# Altium schematic symbol library Connector_B2B.SchLib: 7 symbols
Pins are listed as number, name and electrical type; pins without a type are passive.

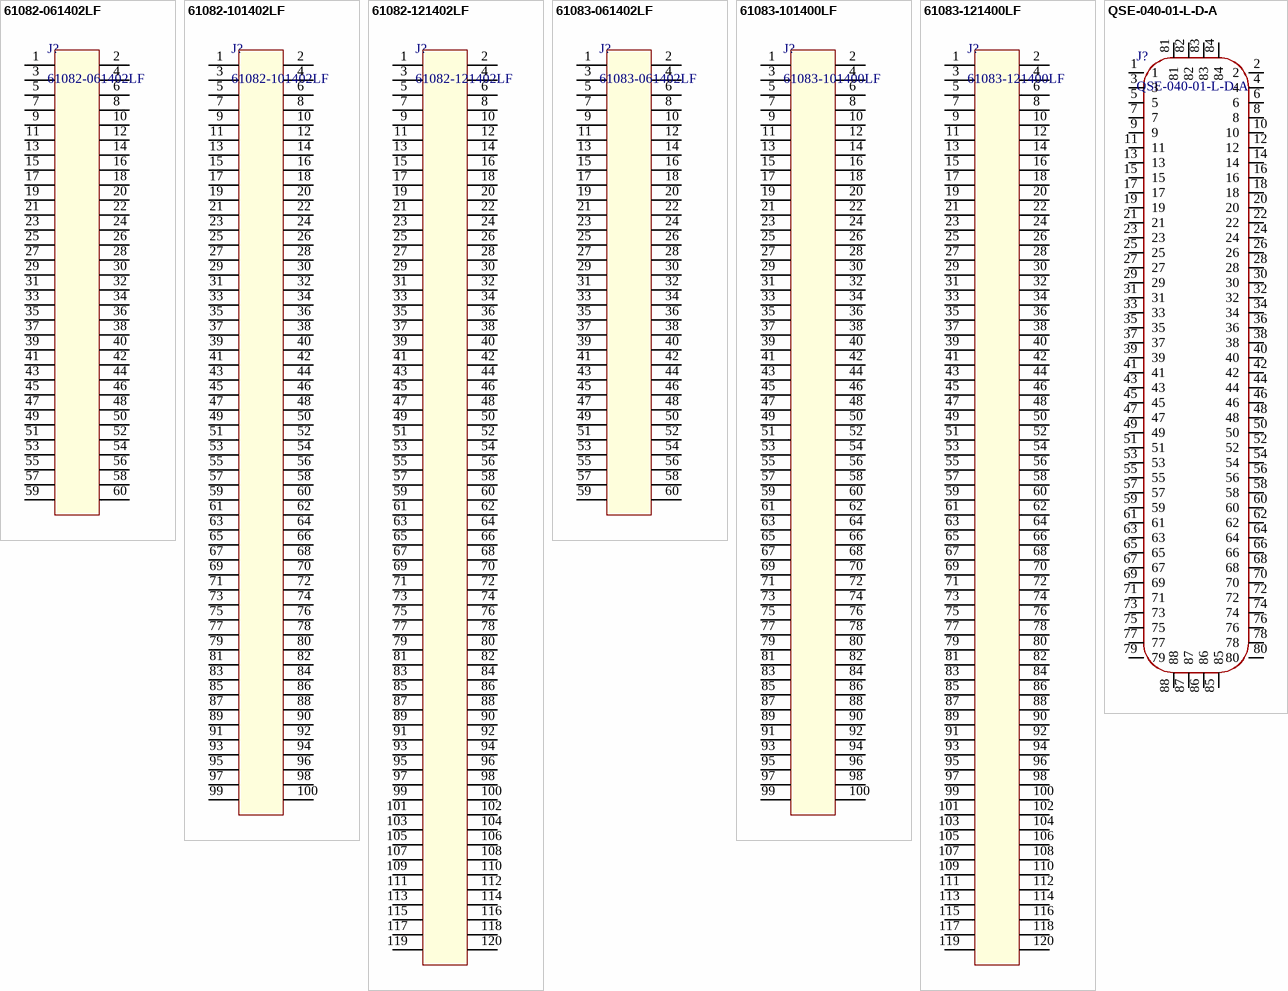
[diagram p0: symbols 61082-061402LF to QSE-040-01-L-D-A]

## 61082-061402LF
designator J?
60pin 0.8mm
footprint CONN-SMD_61082-061402LF
pins: 1, 2, 3, 4, 5, 6, 7, 8, 9, 10, 11, 12, 13, 14, 15, 16, 17, 18, 19, 20, 21, 22, 23, 24, 25, 26, 27, 28, 29, 30, 31, 32, 33, 34, 35, 36, 37, 38, 39, 40, 41, 42, 43, 44, 45, 46, 47, 48, 49, 50, 51, 52, 53, 54, 55, 56, 57, 58, 59, 60

## 61082-101402LF
designator J?
100pin 0.8mm
footprint CONN-SMD_61082-101402LF
pins: 1, 2, 3, 4, 5, 6, 7, 8, 9, 10, 11, 12, 13, 14, 15, 16, 17, 18, 19, 20, 21, 22, 23, 24, 25, 26, 27, 28, 29, 30, 31, 32, 33, 34, 35, 36, 37, 38, 39, 40, 41, 42, 43, 44, 45, 46, 47, 48, 49, 50, 51, 52, 53, 54, 55, 56, 57, 58, 59, 60, 61, 62 61, 63 62, 64 62, 65 63, 66 63, 67 64, 68 64, 69 65, 70 65, 71 66, 72 66, 73 67, 74 67, 75 68, 76 68, 77 69, 78 69, 79 70, 80 70, 81 71, 82 71, 83 72, 84 72, 85 73, 86 73, 87 74, 88 74, 89 75, 90 75, 91 76, 92 76, 93 77, 94 77, 95 78, 96 78, 97 79, 98 79, 99 80, 100 80

## 61082-121402LF
designator J?
120pin 0.8mm
footprint CONN-SMD_61082-121402LF (Footprint not found)
pins: 1, 2, 3, 4, 5, 6, 7, 8, 9, 10, 11, 12, 13, 14, 15, 16, 17, 18, 19, 20, 21, 22, 23, 24, 25, 26, 27, 28, 29, 30, 31, 32, 33, 34, 35, 36, 37, 38, 39, 40, 41, 42, 43, 44, 45, 46, 47, 48, 49, 50, 51, 52, 53, 54, 55, 56, 57, 58, 59, 60, 61, 62 61, 63 62, 64 62, 65 63, 66 63, 67 64, 68 64, 69 65, 70 65, 71 66, 72 66, 73 67, 74 67, 75 68, 76 68, 77 69, 78 69, 79 70, 80 70, 81 71, 82 71, 83 72, 84 72, 85 73, 86 73, 87 74, 88 74, 89 75, 90 75, 91 76, 92 76, 93 77, 94 77, 95 78, 96 78, 97 79, 98 79, 99 80, 100 80, 101 81, 102 81, 103 82, 104 82, 105 83, 106 83, 107 84, 108 84, 109 85, 110 85, 111 86, 112 86, 113 87, 114 87, 115 88, 116 88, 117 89, 118 89, 119 90, 120 90

## 61083-061402LF
designator J?
60pin 0.8mm
footprint CONN-SMD_61083-061402LF
pins: 1, 2, 3, 4, 5, 6, 7, 8, 9, 10, 11, 12, 13, 14, 15, 16, 17, 18, 19, 20, 21, 22, 23, 24, 25, 26, 27, 28, 29, 30, 31, 32, 33, 34, 35, 36, 37, 38, 39, 40, 41, 42, 43, 44, 45, 46, 47, 48, 49, 50, 51, 52, 53, 54, 55, 56, 57, 58, 59, 60

## 61083-101400LF
designator J?
100pin 0.8mm
footprint CONN-SMD_61083-101402LF
pins: 1, 2, 3, 4, 5, 6, 7, 8, 9, 10, 11, 12, 13, 14, 15, 16, 17, 18, 19, 20, 21, 22, 23, 24, 25, 26, 27, 28, 29, 30, 31, 32, 33, 34, 35, 36, 37, 38, 39, 40, 41, 42, 43, 44, 45, 46, 47, 48, 49, 50, 51, 52, 53, 54, 55, 56, 57, 58, 59, 60, 61 60, 62 61, 63 61, 64 62, 65 62, 66 63, 67 63, 68 64, 69 64, 70 65, 71 65, 72 66, 73 66, 74 67, 75 67, 76 68, 77 68, 78 69, 79 69, 80 70, 81 70, 82 71, 83 71, 84 72, 85 72, 86 73, 87 73, 88 74, 89 74, 90 75, 91 75, 92 76, 93 76, 94 77, 95 77, 96 78, 97 78, 98 79, 99 79, 100 80

## 61083-121400LF
designator J?
120pin 0.8mm
footprint CONN-SMD_61083-121402LF (Footprint not found)
pins: 1, 2, 3, 4, 5, 6, 7, 8, 9, 10, 11, 12, 13, 14, 15, 16, 17, 18, 19, 20, 21, 22, 23, 24, 25, 26, 27, 28, 29, 30, 31, 32, 33, 34, 35, 36, 37, 38, 39, 40, 41, 42, 43, 44, 45, 46, 47, 48, 49, 50, 51, 52, 53, 54, 55, 56, 57, 58, 59, 60, 61 60, 62 61, 63 61, 64 62, 65 62, 66 63, 67 63, 68 64, 69 64, 70 65, 71 65, 72 66, 73 66, 74 67, 75 67, 76 68, 77 68, 78 69, 79 69, 80 70, 81 70, 82 71, 83 71, 84 72, 85 72, 86 73, 87 73, 88 74, 89 74, 90 75, 91 75, 92 76, 93 76, 94 77, 95 77, 96 78, 97 78, 98 79, 99 79, 100 80, 101 80, 102 81, 103 81, 104 82, 105 82, 106 83, 107 83, 108 84, 109 84, 110 85, 111 85, 112 86, 113 86, 114 87, 115 87, 116 88, 117 88, 118 89, 119 89, 120 90

## QSE-040-01-L-D-A
designator J?
footprint QSE-040-01-L-D-A
pins: 1, 2, 3, 4, 5, 6, 7, 8, 9, 10, 11, 12, 13, 14, 15, 16, 17, 18, 19, 20, 21, 22, 23, 24, 25, 26, 27, 28, 29, 30, 31, 32, 33, 34, 35, 36, 37, 38, 39, 40, 41, 42, 43, 44, 45, 46, 47, 48, 49, 50, 51, 52, 53, 54, 55, 56, 57, 58, 59, 60, 61, 62, 63, 64, 65, 66, 67, 68, 69, 70, 71, 72, 73, 74, 75, 76, 77, 78, 79, 80, 81, 82, 83, 84, 85, 86, 87, 88